# Altium footprint library SparkFun-PowerIC.PCBLIB: 69 footprints (part 1 of 5)
Each footprint in its own frame and in the unit in brackets; x right, y up, seen from the top. Pads: shape width x height; smd on the part's side, far side on the other; paste and mask are expansions set on the pad; w line width, h text height; cw(c..) or ccw(c..) is an arc to the next point about the centre after c.
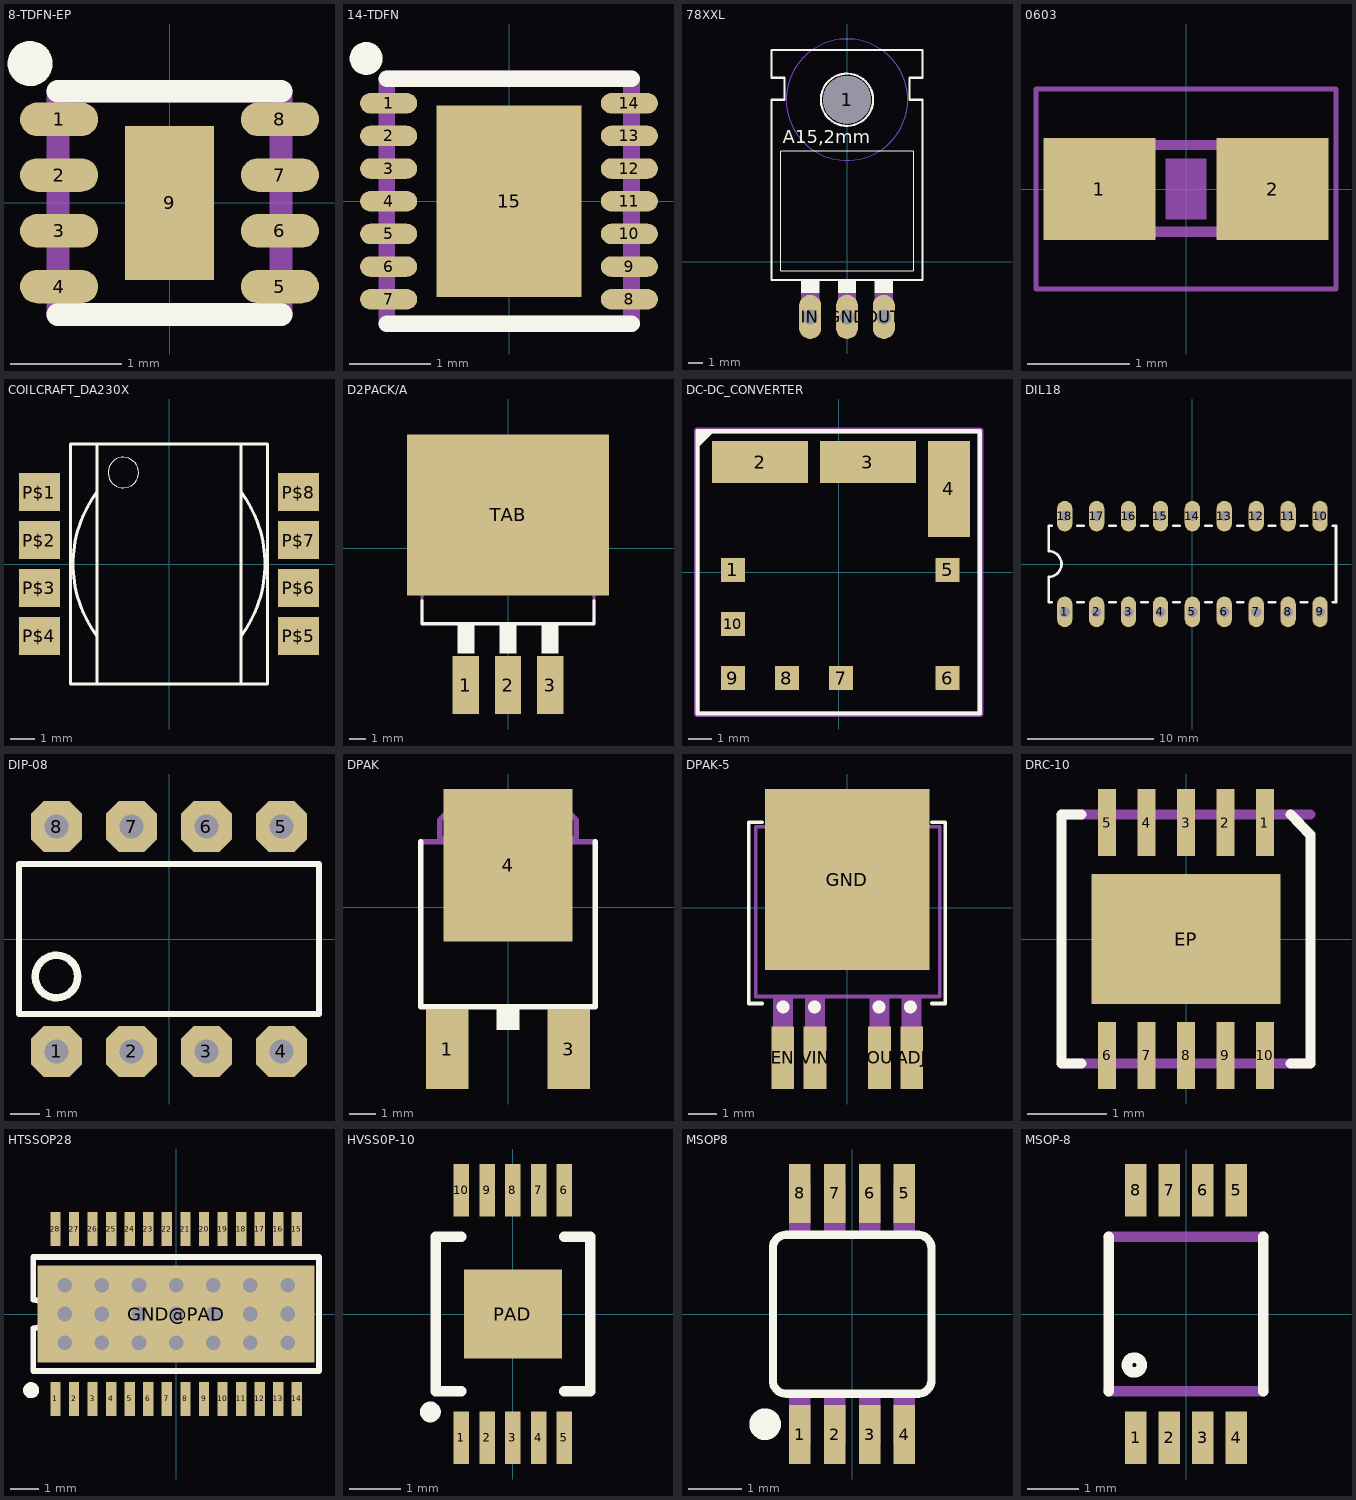
[diagram p0: the footprints below, top view; thin cyan lines are the x and y axes]

## 8-TDFN-EP [mm]
pads (9):
  rrect100% 0.7x0.3 smd: 1(-0.99,0.75) 2(-0.99,0.25) 3(-0.99,-0.25) 4(-0.99,-0.75) 5(0.99,-0.75) 6(0.99,-0.25) 7(0.99,0.25) 8(0.99,0.75)
  rect 0.8x1.38 smd: 9(0,0)
Top Overlay:
  circle w0.203: c-1.25,1.25 r0.1
  lines w0.203: -1,-1 1,-1 ; -1,1 1,1
Top Paste:
  rectangle: -0.35,-0.65 0.35,-0.05
  rectangle: -0.35,0.05 0.35,0.65
Mechanical 16:
  lines w0.203: -1,-1 -1,1 1,1 1,-1 -1,-1

## 14-TDFN [mil]
pads (15):
  rrect100% 27.56x9.84 smd: 1(-58.07,47.24) 2(-58.07,31.5) 3(-58.07,15.75) 4(-58.07,0) 5(-58.07,-15.75) 6(-58.07,-31.5) 7(-58.07,-47.24) 8(58.07,-47.24) 9(58.07,-31.5) 10(58.07,-15.75) 11(58.07,0) 12(58.07,15.75) 13(58.07,31.5) 14(58.07,47.24)
  rect 70.08x92.52 smd: 15(0,0)
Top Overlay:
  circle w8: c-68.9,68.9 r3.94
  lines w8: -59.06,-59.06 59.06,-59.06 ; -59.06,59.06 59.06,59.06
Top Paste:
  rectangle: -33.46,25.59 -1.97,45.28
  rectangle: 1.97,25.59 33.46,45.28
  rectangle: -33.46,1.97 -1.97,21.65
  rectangle: 1.97,1.97 33.46,21.65
  rectangle: -33.46,-21.65 -1.97,-1.97
  rectangle: 1.97,-21.65 33.46,-1.97
  rectangle: -33.46,-45.28 -1.97,-25.59
  rectangle: 1.97,-45.28 33.46,-25.59
Top Solder:
  rectangle: -36.91,-49.21 36.91,49.21
Mechanical 16:
  lines w8: -59.06,-59.06 -59.06,59.06 59.06,59.06 59.06,-59.06 -59.06,-59.06

## 78XXL [mil]
pads (4):
  round 130 hole 130: 1(0,440)
  oval 60x120 hole 40: GND(0,-150) IN(-100,-150) OUT(100,-150)
Bottom Layer keep-out:
  circle w0: c0,440 r165
Top Overlay:
  circle w6: c0,440 r71
  rectangle: 75,-85 125,-50
  rectangle: -25,-85 25,-50
  rectangle: -125,-85 -75,-50
  lines w2: -180,-25 180,-25 180,300 -180,300 -180,-25
  lines w6: -205,-50 205,-50 205,440 170,440 170,500 205,500 205,575 -205,575 -205,500 -170,500 -170,440 -205,440 -205,-50
  text "A15,2mm" at -175,310 h60.45
Mechanical 16:
  rectangle: 75,-150 125,-85
  rectangle: -25,-150 25,-85
  rectangle: -125,-150 -75,-85
  text "-" at -20,0 h77.5
  text "I" at -120,0 h77.5
  text "O" at 80,0 h77.5
Via Holes:
  circle w0: c0,440 r165

## 0603 [mm]
pads (2):
  rect 1.1x1 smd: 1(-0.85,0) 2(0.85,0)
Mechanical 6:
  rectangle: -0.2,-0.3 0.2,0.3
Mechanical 16:
  rectangle: -0.838,-0.47 -0.338,0.48
  rectangle: 0.33,-0.47 0.83,0.48
  lines w0.102: -0.356,-0.419 0.356,-0.419 ; -0.356,0.432 0.356,0.432
Mechanical 27:
  lines w0.051: -1.473,-0.983 1.473,-0.983 1.473,0.983 -1.473,0.983 -1.473,-0.983

## COILCRAFT_DA230X [mm]
pads (8):
  rect 1.7x1.6 smd: P$1(-5.4,3) P$2(-5.4,1) P$3(-5.4,-1) P$4(-5.4,-3) P$5(5.4,-3) P$6(5.4,-1) P$7(5.4,1) P$8(5.4,3)
Top Overlay:
  circle w0: c-1.905,3.81 r0.635
  lines w0.127: -3,-5 -4.1,-5 -4.1,5 -3,5 ; -3,-5 3,-5 ; -3,-5 -3,-3 ; -3,-3 -3,3 ; -3,-3 cw(c1,0) -3,3 ; -3,3 -3,5 ; -3,5 3,5 ; 3,-5 4.1,-5 4.1,5 3,5 ; 3,-5 3,-3 ; 3,-3 3,3 ; 3,-3 ccw(c-1,0) 3,3 ; 3,3 3,5

## D2PACK/A [mm]
pads (4):
  rect 1.6x3.5 smd: 1(-2.54,-8.275) 2(0,-8.275) 3(2.54,-8.275)
  rect 12.2x9.75 smd: TAB(0,2)
Top Overlay:
  rectangle: -0.525,-6.375 0.525,-4.475
  rectangle: -3.065,-6.375 -2.015,-4.475
  rectangle: 2.015,-6.375 3.065,-4.475
  lines w0.203: -5.2,-3.175 -5.2,-4.575 5.2,-4.575 5.2,-3.175
Mechanical 16:
  rectangle: -0.525,-9.775 0.525,-6.575
  rectangle: 2.015,-9.775 3.065,-6.575
  rectangle: -3.065,-9.775 -2.015,-6.575
  region: 0,0 0.254,0 0.254,0.254 0,0.254
  region: 0,0 0.254,0 0.254,0.254 0,0.254
  lines w0.203: -5.2,-4.575 -5.2,4.575 ; 5.2,-4.575 5.2,4.575

## DC-DC_CONVERTER [mm]
pads (10):
  rect 1.01x1.01 smd: 1(-4.48,0.1) 5(4.61,0.1) 6(4.61,-4.48) 7(0.1,-4.48) 8(-2.19,-4.48) 9(-4.48,-4.48) 10(-4.48,-2.19)
  rect 4.07x1.77 smd: 2(-3.33,4.67) 3(1.24,4.67)
  rect 1.77x4.07 smd: 4(4.67,3.53)
Top Overlay:
  lines w0.178: -5.918,5.436 -5.41,5.944 ; -5.973,-5.973 5.973,-5.973 5.973,5.973 -5.973,5.973 -5.973,-5.973
  lines w0.254: -5.918,5.69 -5.69,5.918
Mechanical 16:
  lines w0.25: -6,-6 6,-6 6,6 -6,6 -6,-6

## DIL18 [mil]
pads (18):
  oval 48x96 hole 32: 1(-400,-150) 2(-300,-150) 3(-200,-150) 4(-100,-150) 5(0,-150) 6(100,-150) 7(200,-150) 8(300,-150) 9(400,-150) 10(400,150) 11(300,150) 12(200,150) 13(100,150) 14(0,150) 15(-100,150) 16(-200,150) 17(-300,150) 18(-400,150)
Top Overlay:
  lines w8: -440,-120 -450,-120 -450,-40 ccw(c-450,0) -450,40 -450,120 -440,120 ; -360,-120 -340,-120 ; -360,120 -340,120 ; -260,-120 -240,-120 ; -260,120 -240,120 ; -160,-120 -140,-120 ; -160,120 -140,120 ; -60,-120 -40,-120 ; -60,120 -40,120 ; 40,-120 60,-120 ; 40,120 60,120 ; 140,-120 160,-120 ; 140,120 160,120 ; 240,-120 260,-120 ; 240,120 260,120 ; 340,-120 360,-120 ; 340,120 360,120 ; 440,-120 450,-120 450,120 440,120

## DIP-08 [mil]
pads (8):
  oct 68x68 hole 32: 1(-150,-150) 2(-50,-150) 3(50,-150) 4(150,-150) 5(150,150) 6(50,150) 7(-50,150) 8(-150,150)
Top Overlay:
  circle w10: c-150,-50 r28.28
  lines w8: -200,-40 -200,-60 ; -200,-60 -200,100 200,100 200,-100 -200,-100 -200,-60

## DPAK [mm]
pads (3):
  rect 1.6x3 smd: 1(-2.28,-5.31) 3(2.28,-5.31)
  rect 4.826x5.715 smd: 4(0,1.588)
Top Overlay:
  rectangle: -0.432,-4.593 0.432,-3.831
  lines w0.203: -3.277,2.465 -3.277,-3.729 3.277,-3.729 3.277,2.465
Mechanical 16:
  rectangle: -2.718,-6.726 -1.854,-3.831
  rectangle: 1.854,-6.726 2.718,-3.831
  region: 0,0 0.254,0 0.254,0.254 0,0.254
  lines w0.203: -3.277,2.465 3.277,2.465 ; -2.565,2.567 -2.565,3.278 -2.108,3.735 2.108,3.735 2.565,3.278 2.565,2.567 -2.565,2.567

## DPAK-5 [mil]
pads (5):
  rect 31.5x86.61 smd: ADJ(89.76,-208.66) EN(-89.76,-208.66) VIN(-44.88,-208.66) VOUT(44.88,-208.66)
  rect 228.35x251.97 smd: GND(0,39.37)
Top Overlay:
  circle w10: c-89.37,-137.8 r3.94
  circle w10: c-45.67,-137.8 r3.94
  circle w10: c44.09,-137.8 r3.94
  circle w10: c87.8,-137.8 r3.94
  lines w5: -121.65,119.29 -137.01,119.29 ; -118.11,-133.07 -137.01,-133.07 -137.01,119.29 ; -118.11,119.29 -137.01,119.29 ; 117.32,-133.07 136.22,-133.07 ; 117.32,119.29 136.22,119.29 136.22,-133.07 ; 120.87,-133.07 136.22,-133.07
Mechanical 16:
  rectangle: -103.15,-228.35 -75.59,-122.05
  rectangle: -58.66,-228.35 -31.1,-122.05
  rectangle: 31.1,-227.95 58.66,-121.65
  rectangle: 75.59,-227.95 103.15,-121.65
  lines w5: 90.16,113.39 90.16,141.73 80.32,151.57 -77.17,151.57 -87.01,141.73 -87.01,112.99 ; -87.01,112.99 128.35,112.99 128.35,-123.23 -127.56,-123.23 -127.56,112.99 -87.01,112.99

## DRC-10 [mm]
pads (11):
  rect 0.23x0.85 smd: 1(1,1.475) 2(0.5,1.475) 3(0,1.475) 4(-0.5,1.475) 5(-1,1.475) 6(-1,-1.475) 7(-0.5,-1.475) 8(0,-1.475) 9(0.5,-1.475) 10(1,-1.475)
  rect 2.4x1.65 smd: EP(0,0)
Top Overlay:
  lines w0.127: -1.325,-1.575 -1.575,-1.575 -1.575,1.575 -1.325,1.575 ; 1.325,-1.575 1.575,-1.575 1.575,1.321 1.325,1.575
Mechanical 16:
  lines w0.127: -1.575,-1.575 1.575,-1.575 ; -1.575,1.575 1.575,1.575

## HTSSOP28 [mil]
pads (50):
  rect 14.17x46.85 smd: 1(-166.34,-116.93) 2(-140.75,-116.93) 3(-115.16,-116.93) 4(-89.57,-116.93) 5(-63.98,-116.93) 6(-38.39,-116.93) 7(-12.8,-116.93) 8(12.8,-116.93) 9(38.39,-116.93) 10(63.98,-116.93) 11(89.57,-116.93) 12(115.16,-116.93) 13(140.75,-116.93) 14(166.34,-116.93) 15(166.34,116.93) 16(140.75,116.93) 17(115.16,116.93) 18(89.57,116.93) 19(63.98,116.93) 20(38.39,116.93) 21(12.8,116.93) 22(-12.8,116.93) 23(-38.39,116.93) 24(-63.98,116.93) 25(-89.57,116.93) 26(-115.16,116.93) 27(-140.75,116.93) 28(-166.34,116.93)
  round 30 hole 20: GND@10(-153.54,39.37) GND@11(-153.54,0) GND@12(-153.54,-39.37) GND@13(-102.36,-39.37) GND@14(-102.36,0) GND@15(-102.36,39.37) GND@16(-51.18,39.37) GND@17(-51.18,0) GND@18(-51.18,-39.37) GND@19(0,-39.37) GND@20(0,0) GND@21(0,39.37) GND@22(51.18,39.37) GND@23(51.18,0) GND@24(51.18,-39.37) GND@25(102.36,-39.37) GND@26(102.36,0) GND@27(102.36,39.37) GND@28(153.54,39.37) GND@29(153.54,0) GND@30(153.54,-39.37)
  rect 381.89x133.86 smd: GND@PAD(0,0)
Top Overlay:
  circle w12: c-200,-105 r5
  lines w8: -196.85,-78.74 -196.85,-19.69 ccw(c-196.85,0) -196.85,19.69 -196.85,78.74 196.85,78.74 196.85,-78.74 -196.85,-78.74
Top Paste:
  rectangle: -98.43,-59.06 98.43,59.06
Top Solder:
  rectangle: -101.97,-61.02 101.97,61.02

## HVSS0P-10 [mm]
pads (11):
  rect 0.3x1.02 smd: 1(-1,-2.4) 2(-0.5,-2.4) 3(0,-2.4) 4(0.5,-2.4) 5(1,-2.4) 6(1,2.4) 7(0.5,2.4) 8(0,2.4) 9(-0.5,2.4) 10(-1,2.4)
  rect 1.905x1.727 smd: PAD(0,0)
Top Overlay:
  circle w0.203: c-1.6,-1.9 r0.1
  lines w0.203: -1,-1.5 -1.5,-1.5 -1.5,1.5 -1,1.5 ; 1,-1.5 1.5,-1.5 1.5,1.5 1,1.5

## MSOP8 [mm]
pads (8):
  rect 0.4x1.1 smd: 1(-0.975,-2.25) 2(-0.325,-2.25) 3(0.325,-2.25) 4(0.975,-2.25) 5(0.975,2.25) 6(0.325,2.25) 7(-0.325,2.25) 8(-0.975,2.25)
Top Overlay:
  circle w0.406: c-1.626,-2.057 r0.092
  lines w0.152: -1.48,-1.24 ccw(c-1.23,-1.24) -1.23,-1.49 ; -1.48,-1.23 -1.48,1.23 cw(c-1.23,1.23) -1.23,1.48 ; -1.22,-1.49 1.24,-1.49 ; -1.22,1.48 1.24,1.48 ; 1.23,-1.49 ccw(c1.23,-1.24) 1.48,-1.24 1.48,1.23 ccw(c1.23,1.23) 1.23,1.48
Mechanical 16:
  rectangle: -1.175,-2.45 -0.775,-1.55
  rectangle: -0.525,-2.45 -0.125,-1.55
  rectangle: 0.125,-2.45 0.525,-1.55
  rectangle: 0.775,-2.45 1.175,-1.55
  rectangle: 0.775,1.55 1.175,2.45
  rectangle: 0.125,1.55 0.525,2.45
  rectangle: -0.525,1.55 -0.125,2.45
  rectangle: -1.175,1.55 -0.775,2.45

## MSOP-8 [mm]
pads (8):
  rect 0.41x1.02 smd: 1(-0.975,-2.4) 2(-0.325,-2.4) 3(0.325,-2.4) 4(0.975,-2.4) 5(0.975,2.4) 6(0.325,2.4) 7(-0.325,2.4) 8(-0.975,2.4)
Top Overlay:
  circle w0.203: c-1.003,-0.991 r0.144
  lines w0.203: -1.5,-1.5 -1.5,1.5 ; 1.5,-1.5 1.5,1.5
Mechanical 16:
  lines w0.203: -1.5,-1.5 1.5,-1.5 ; -1.5,1.5 1.5,1.5